# Altium integrated library LIB2022 - Connectors.IntLib: 13 symbols
Pins are listed as number, name and electrical type; pins without a type are passive.

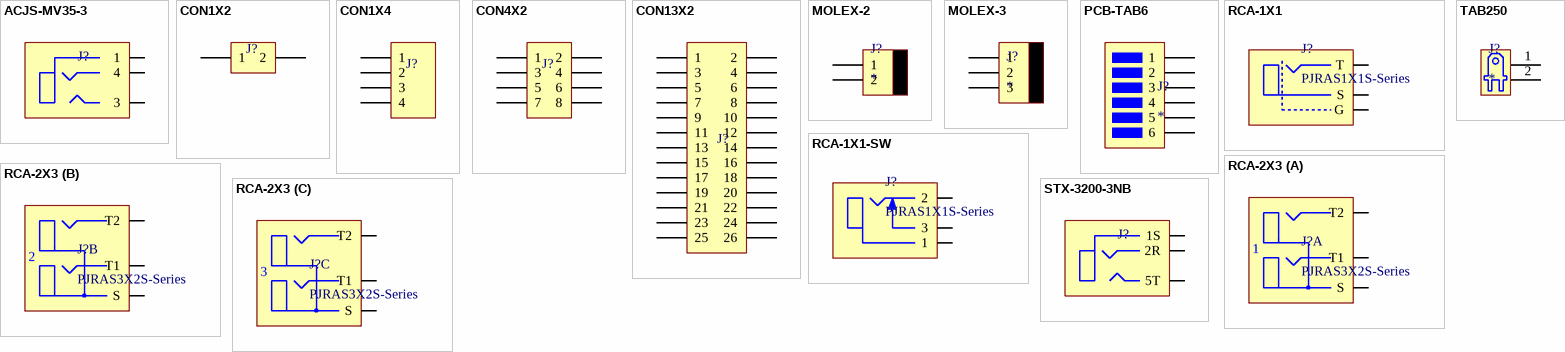
[diagram p0: symbols ACJS-MV35-3 to TAB250]

## ACJS-MV35-3
designator J?
footprint JACK-3.5-3POS - PANEL
pins: 1, 3, 4

## CON1X2
designator J?
footprint SIP1X2
pins: 1, 2

## CON1X4
designator J?
footprint SIP1X4
pins: 1, 2, 3, 4

## CON4X2
designator J?
footprint SIP4X2
pins: 1, 2, 3, 4, 5, 6, 7, 8

## CON13X2
designator J?
footprint SIP13X2
pins: 1, 2, 3, 4, 5, 6, 7, 8, 9, 10, 11, 12, 13, 14, 15, 16, 17, 18, 19, 20, 21, 22, 23, 24, 25, 26

## MOLEX-2
designator J?
footprint MOLEX-2 (Connector 1x2, Pitch 100mil)
pins: 1, 2

## MOLEX-3
designator J?
footprint MOLEX-3 (Connector 1x3, Pitch 100mil)
pins: 1, 2, 3

## PCB-TAB6
designator J?
footprint PCB-TAB6 (External Tabs x 6, Pitch 4mm)
pins: 1, 2, 3, 4, 5, 6

## RCA-1X1
designator J?, comment PJRAS1X1S-Series
footprint RCA1X1-RA
pins: G, S, T

## RCA-1X1-SW
designator J?, comment PJRAS1X1S-Series
footprint RCA1X1-RA - SW
pins: 1, 2, 3

## RCA-2X3
designator J?, comment PJRAS3X2S-Series
footprint RCA2X3-RA
part A pins: S1 S, T1-1 T1, T2-1 T2
part B pins: S2 S, T1-2 T1, T2-2 T2
part C pins: S3 S, T1-3 T1, T2-3 T2
part A text: 1
part B text: 2
part C text: 3

## STX-3200-3NB
designator J?
footprint JACK-3.5-3POS
pins: 1S, 2R, 5T

## TAB250
designator J?
footprint TAB250-200P
footprint TAB250-250P
pins: 1, 2